# EAGLE library part 691413720024 (library Wurth_Elektronik_Electromechanic_Terminal_Blocks_Connectors_rev16b)
WR-TBL Terminal block - serie 413 5.0mm - Spring clamp/Screw less - 45° entry - 24p Code:Con_TBL_Screwless_5.00_6914137200xxB_691413720024 Created 2014-12-22, aslant tao 2014 (C) Würth Elektronik
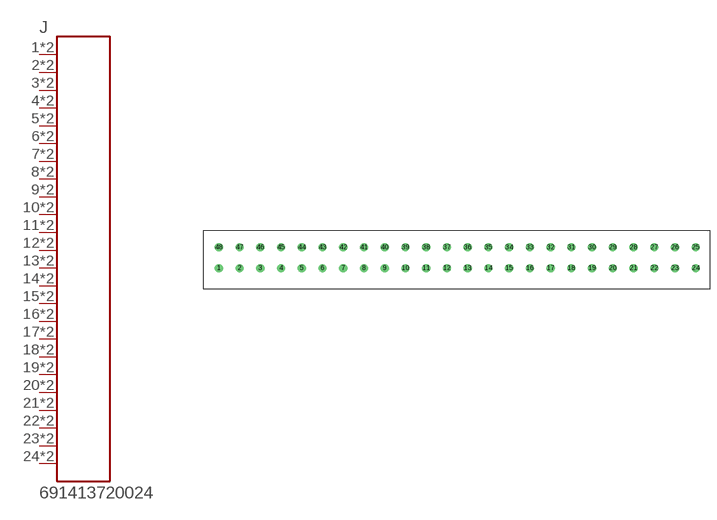
[diagram p271: symbol with the pads of 691413720024; footprint 691413720024]

Designator prefix J

## 691413720024  [691413720024]
1  1  pas
2  2  pas
3  3  pas
4  4  pas
5  5  pas
6  6  pas
7  7  pas
8  8  pas
9  9  pas
10  10  pas
11  11  pas
12  12  pas
13  13  pas
14  14  pas
15  15  pas
16  16  pas
17  17  pas
18  18  pas
19  19  pas
20  20  pas
21  21  pas
22  22  pas
23  23  pas
24  24  pas
25  24  pas
26  23  pas
27  22  pas
28  21  pas
29  20  pas
30  19  pas
31  18  pas
32  17  pas
33  16  pas
34  15  pas
35  14  pas
36  13  pas
37  12  pas
38  11  pas
39  10  pas
40  9  pas
41  8  pas
42  7  pas
43  6  pas
44  5  pas
45  4  pas
46  3  pas
47  2  pas
48  1  pas

## Footprint 691413720024 (pad centres in mm)
WR-TBL Serie 413 - 5.0mm Screwless 45° Entry - 3 mm2 Wires, 24 Pins
drill 1.3: 1 -5,-2.5; 2 0,-2.5; 3 5,-2.5; 4 10,-2.5; 5 15,-2.5; 6 20,-2.5; 7 25,-2.5; 8 30,-2.5; 9 35,-2.5; 10 40,-2.5; 11 45,-2.5; 12 50,-2.5; 13 55,-2.5; 14 60,-2.5; 15 65,-2.5; 16 70,-2.5; 17 75,-2.5; 18 80,-2.5; 19 85,-2.5; 20 90,-2.5; 21 95,-2.5; 22 100,-2.5; 23 105,-2.5; 24 110,-2.5; 25 110,2.5; 26 105,2.5; 27 100,2.5; 28 95,2.5; 29 90,2.5; 30 85,2.5; 31 80,2.5; 32 75,2.5; 33 70,2.5; 34 65,2.5; 35 60,2.5; 36 55,2.5; 37 50,2.5; 38 45,2.5; 39 40,2.5; 40 35,2.5; 41 30,2.5; 42 25,2.5; 43 20,2.5; 44 15,2.5; 45 10,2.5; 46 5,2.5; 47 0,2.5; 48 -5,2.5